# Altium schematic symbol library WE-CMDC.SchLib: 16 symbols
Pins are listed as number, name and electrical type; pins without a type are passive.

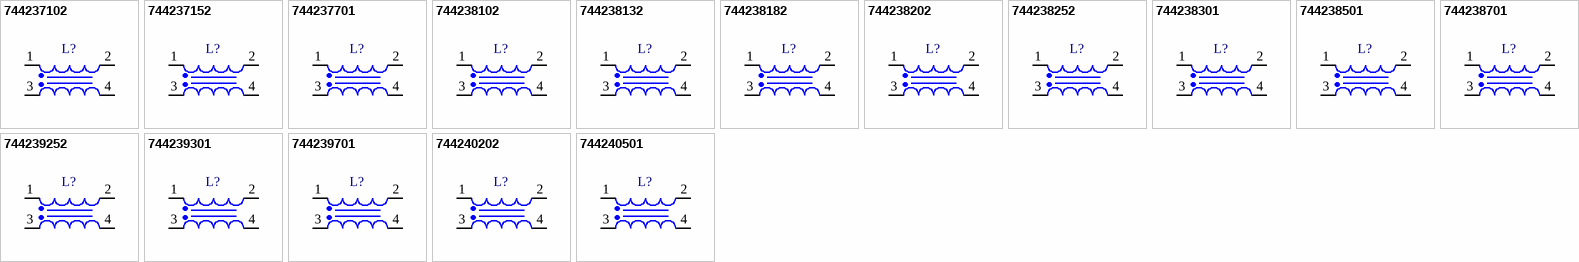
[diagram p0: symbols 744237102 to 744240501]

## 744237102
designator L?, comment 13μH  (value not drawn)
WE-CMDC Common Mode Data Line Filter, SMT, size 1211, 13μH, 14mΩ; Manufacturer Part Number: 744237102; Manufacturer: Wurth Elektronik; Case/Size Code: 1211; Impedance: 1000Ω; Rated Voltage: 80V (DC); Rated Current: 6A; Winding Style: sectional; Category: Common Mode Chokes; Match Code: WE-CMDC; ComponentLink1Description: Website Link; ComponentLink1URL: https://www.we-online.com/redexpert/article/744237102?ad; ComponentLink2Description: Datasheet Link; ComponentLink2URL: https://www.we-online.com/redexpert/spec/744237102?ad; Mount: Surface Mount; Min Operating Temperature: -40°C; Max Operating Temperature: 125°C; Packaging: Tape and Reel; DC Resistance: 14mΩ; Inductance: 13μH
footprint WE-CMDC_1211
simulation model 1211_744237102_13u
pins: 1, 2, 3, 4

## 744237152
designator L?, comment 17μH  (value not drawn)
WE-CMDC Common Mode Data Line Filter, SMT, size 1211, 17μH, 21mΩ; Manufacturer Part Number: 744237152; Manufacturer: Wurth Elektronik; Case/Size Code: 1211; Impedance: 1500Ω; Rated Voltage: 80V (DC); Rated Current: 4.5A; Winding Style: sectional; Category: Common Mode Chokes; Match Code: WE-CMDC; ComponentLink1Description: Website Link; ComponentLink1URL: https://www.we-online.com/redexpert/article/744237152?ad; ComponentLink2Description: Datasheet Link; ComponentLink2URL: https://www.we-online.com/redexpert/spec/744237152?ad; Mount: Surface Mount; Min Operating Temperature: -40°C; Max Operating Temperature: 125°C; Packaging: Tape and Reel; DC Resistance: 21mΩ; Inductance: 17μH
footprint WE-CMDC_1211
simulation model 1211_744237152_17u
pins: 1, 2, 3, 4

## 744237701
designator L?, comment 9μH  (value not drawn)
WE-CMDC Common Mode Data Line Filter, SMT, size 1211, 9μH, 6mΩ; Manufacturer Part Number: 744237701; Manufacturer: Wurth Elektronik; Case/Size Code: 1211; Impedance: 700Ω; Rated Voltage: 80V (DC); Rated Current: 8A; Winding Style: sectional; Category: Common Mode Chokes; Match Code: WE-CMDC; ComponentLink1Description: Website Link; ComponentLink1URL: https://www.we-online.com/redexpert/article/744237701?ad; ComponentLink2Description: Datasheet Link; ComponentLink2URL: https://www.we-online.com/redexpert/spec/744237701?ad; Mount: Surface Mount; Min Operating Temperature: -40°C; Max Operating Temperature: 125°C; Packaging: Tape and Reel; DC Resistance: 6mΩ; Inductance: 9μH
footprint WE-CMDC_1211
simulation model 1211_744237701_9u
pins: 1, 2, 3, 4

## 744238102
designator L?, comment 12.5μH  (value not drawn)
WE-CMDC Common Mode Data Line Filter, SMT, size 7060, 12.5μH, 20mΩ; Manufacturer Part Number: 744238102; Manufacturer: Wurth Elektronik; Case/Size Code: 7060; Impedance: 1000Ω; Rated Voltage: 80V (DC); Rated Current: 3A; Winding Style: sectional; Category: Common Mode Chokes; Match Code: WE-CMDC; ComponentLink1Description: Website Link; ComponentLink1URL: https://www.we-online.com/redexpert/article/744238102?ad; ComponentLink2Description: Datasheet Link; ComponentLink2URL: https://www.we-online.com/redexpert/spec/744238102?ad; Mount: Surface Mount; Min Operating Temperature: -40°C; Max Operating Temperature: 125°C; Packaging: Tape and Reel; DC Resistance: 20mΩ; Inductance: 12.5μH
footprint WE-CMDC_7060
simulation model 7060_744238102_12.5u
pins: 1, 2, 3, 4

## 744238132
designator L?, comment 14μH  (value not drawn)
WE-CMDC Common Mode Data Line Filter, SMT, size 7060, 14μH, 25mΩ; Manufacturer Part Number: 744238132; Manufacturer: Wurth Elektronik; Case/Size Code: 7060; Impedance: 1300Ω; Rated Voltage: 80V (DC); Rated Current: 2.5A; Winding Style: sectional; Category: Common Mode Chokes; Match Code: WE-CMDC; ComponentLink1Description: Website Link; ComponentLink1URL: https://www.we-online.com/redexpert/article/744238132?ad; ComponentLink2Description: Datasheet Link; ComponentLink2URL: https://www.we-online.com/redexpert/spec/744238132?ad; Mount: Surface Mount; Min Operating Temperature: -40°C; Max Operating Temperature: 125°C; Packaging: Tape and Reel; DC Resistance: 25mΩ; Inductance: 14μH
footprint WE-CMDC_7060
simulation model 7060_744238132_14u
pins: 1, 2, 3, 4

## 744238182
designator L?, comment 20μH  (value not drawn)
WE-CMDC Common Mode Data Line Filter, SMT, size 7060, 20μH, 53mΩ; Manufacturer Part Number: 744238182; Manufacturer: Wurth Elektronik; Case/Size Code: 7060; Impedance: 1800Ω; Rated Voltage: 80V (DC); Rated Current: 2A; Winding Style: sectional; Category: Common Mode Chokes; Match Code: WE-CMDC; ComponentLink1Description: Website Link; ComponentLink1URL: https://www.we-online.com/redexpert/article/744238182?ad; ComponentLink2Description: Datasheet Link; ComponentLink2URL: https://www.we-online.com/redexpert/spec/744238182?ad; Mount: Surface Mount; Min Operating Temperature: -40°C; Max Operating Temperature: 125°C; Packaging: Tape and Reel; DC Resistance: 53mΩ; Inductance: 20μH
footprint WE-CMDC_7060
simulation model 7060_744238182_20u
pins: 1, 2, 3, 4

## 744238202
designator L?, comment 23.5μH  (value not drawn)
WE-CMDC Common Mode Data Line Filter, SMT, size 7060, 23.5μH, 63mΩ; Manufacturer Part Number: 744238202; Manufacturer: Wurth Elektronik; Case/Size Code: 7060; Impedance: 2000Ω; Rated Voltage: 80V (DC); Rated Current: 1.5A; Winding Style: sectional; Category: Common Mode Chokes; Match Code: WE-CMDC; ComponentLink1Description: Website Link; ComponentLink1URL: https://www.we-online.com/redexpert/article/744238202?ad; ComponentLink2Description: Datasheet Link; ComponentLink2URL: https://www.we-online.com/redexpert/spec/744238202?ad; Mount: Surface Mount; Min Operating Temperature: -40°C; Max Operating Temperature: 125°C; Packaging: Tape and Reel; DC Resistance: 63mΩ; Inductance: 23.5μH
footprint WE-CMDC_7060
simulation model 7060_744238202_23.5u
pins: 1, 2, 3, 4

## 744238252
designator L?, comment 27μH  (value not drawn)
WE-CMDC Common Mode Data Line Filter, SMT, size 7060, 27μH, 72mΩ; Manufacturer Part Number: 744238252; Manufacturer: Wurth Elektronik; Case/Size Code: 7060; Impedance: 2500Ω; Rated Voltage: 80V (DC); Rated Current: 1.2A; Winding Style: sectional; Category: Common Mode Chokes; Match Code: WE-CMDC; ComponentLink1Description: Website Link; ComponentLink1URL: https://www.we-online.com/redexpert/article/744238252?ad; ComponentLink2Description: Datasheet Link; ComponentLink2URL: https://www.we-online.com/redexpert/spec/744238252?ad; Mount: Surface Mount; Min Operating Temperature: -40°C; Max Operating Temperature: 125°C; Packaging: Tape and Reel; DC Resistance: 72mΩ; Inductance: 27μH
footprint WE-CMDC_7060
simulation model 7060_744238252_27u
pins: 1, 2, 3, 4

## 744238301
designator L?, comment 4μH  (value not drawn)
WE-CMDC Common Mode Data Line Filter, SMT, size 7060, 4μH, 10mΩ; Manufacturer Part Number: 744238301; Manufacturer: Wurth Elektronik; Case/Size Code: 7060; Impedance: 300Ω; Rated Voltage: 80V (DC); Rated Current: 5A; Winding Style: sectional; Category: Common Mode Chokes; Match Code: WE-CMDC; ComponentLink1Description: Website Link; ComponentLink1URL: https://www.we-online.com/redexpert/article/744238301?ad; ComponentLink2Description: Datasheet Link; ComponentLink2URL: https://www.we-online.com/redexpert/spec/744238301?ad; Mount: Surface Mount; Min Operating Temperature: -40°C; Max Operating Temperature: 125°C; Packaging: Tape and Reel; DC Resistance: 10mΩ; Inductance: 4μH
footprint WE-CMDC_7060
simulation model 7060_744238301_4u
pins: 1, 2, 3, 4

## 744238501
designator L?, comment 7μH  (value not drawn)
WE-CMDC Common Mode Data Line Filter, SMT, size 7060, 7μH, 14mΩ; Manufacturer Part Number: 744238501; Manufacturer: Wurth Elektronik; Case/Size Code: 7060; Impedance: 500Ω; Rated Voltage: 80V (DC); Rated Current: 4.5A; Winding Style: sectional; Category: Common Mode Chokes; Match Code: WE-CMDC; ComponentLink1Description: Website Link; ComponentLink1URL: https://www.we-online.com/redexpert/article/744238501?ad; ComponentLink2Description: Datasheet Link; ComponentLink2URL: https://www.we-online.com/redexpert/spec/744238501?ad; Mount: Surface Mount; Min Operating Temperature: -40°C; Max Operating Temperature: 125°C; Packaging: Tape and Reel; DC Resistance: 14mΩ; Inductance: 7μH
footprint WE-CMDC_7060
simulation model 7060_744238501_7u
pins: 1, 2, 3, 4

## 744238701
designator L?, comment 9μH  (value not drawn)
WE-CMDC Common Mode Data Line Filter, SMT, size 7060, 9μH, 15mΩ; Manufacturer Part Number: 744238701; Manufacturer: Wurth Elektronik; Case/Size Code: 7060; Impedance: 700Ω; Rated Voltage: 80V (DC); Rated Current: 4A; Winding Style: sectional; Category: Common Mode Chokes; Match Code: WE-CMDC; ComponentLink1Description: Website Link; ComponentLink1URL: https://www.we-online.com/redexpert/article/744238701?ad; ComponentLink2Description: Datasheet Link; ComponentLink2URL: https://www.we-online.com/redexpert/spec/744238701?ad; Mount: Surface Mount; Min Operating Temperature: -40°C; Max Operating Temperature: 125°C; Packaging: Tape and Reel; DC Resistance: 15mΩ; Inductance: 9μH
footprint WE-CMDC_7060
simulation model 7060_744238701_9u
pins: 1, 2, 3, 4

## 744239252
designator L?, comment 45μH  (value not drawn)
WE-CMDC Common Mode Data Line Filter, SMT, size 9070, 45μH, 71mΩ; Manufacturer Part Number: 744239252; Manufacturer: Wurth Elektronik; Case/Size Code: 9070; Impedance: 2500Ω; Rated Voltage: 80V (DC); Rated Current: 1.9A; Winding Style: sectional; Category: Common Mode Chokes; Match Code: WE-CMDC; ComponentLink1Description: Website Link; ComponentLink1URL: https://www.we-online.com/redexpert/article/744239252?ad; ComponentLink2Description: Datasheet Link; ComponentLink2URL: https://www.we-online.com/redexpert/spec/744239252?ad; Mount: Surface Mount; Min Operating Temperature: -40°C; Max Operating Temperature: 125°C; Packaging: Tape and Reel; DC Resistance: 71mΩ; Inductance: 45μH
footprint WE-CMDC_9070
simulation model 9070_744239252_45u
pins: 1, 2, 3, 4

## 744239301
designator L?, comment 4.5μH  (value not drawn)
WE-CMDC Common Mode Data Line Filter, SMT, size 9070, 4.5μH, 7mΩ; Manufacturer Part Number: 744239301; Manufacturer: Wurth Elektronik; Case/Size Code: 9070; Impedance: 300Ω; Rated Voltage: 80V (DC); Rated Current: 6A; Winding Style: sectional; Category: Common Mode Chokes; Match Code: WE-CMDC; ComponentLink1Description: Website Link; ComponentLink1URL: https://www.we-online.com/redexpert/article/744239301?ad; ComponentLink2Description: Datasheet Link; ComponentLink2URL: https://www.we-online.com/redexpert/spec/744239301?ad; Mount: Surface Mount; Min Operating Temperature: -40°C; Max Operating Temperature: 125°C; Packaging: Tape and Reel; DC Resistance: 7mΩ; Inductance: 4.5μH
footprint WE-CMDC_9070
simulation model 9070_744239301_4.5u
pins: 1, 2, 3, 4

## 744239701
designator L?, comment 8μH  (value not drawn)
WE-CMDC Common Mode Data Line Filter, SMT, size 9070, 8μH, 10mΩ; Manufacturer Part Number: 744239701; Manufacturer: Wurth Elektronik; Case/Size Code: 9070; Impedance: 700Ω; Rated Voltage: 80V (DC); Rated Current: 5A; Winding Style: sectional; Category: Common Mode Chokes; Match Code: WE-CMDC; ComponentLink1Description: Website Link; ComponentLink1URL: https://www.we-online.com/redexpert/article/744239701?ad; ComponentLink2Description: Datasheet Link; ComponentLink2URL: https://www.we-online.com/redexpert/spec/744239701?ad; Mount: Surface Mount; Min Operating Temperature: -40°C; Max Operating Temperature: 125°C; Packaging: Tape and Reel; DC Resistance: 10mΩ; Inductance: 8μH
footprint WE-CMDC_9070
simulation model 9070_744239701_8u
pins: 1, 2, 3, 4

## 744240202
designator L?, comment 31.5μH  (value not drawn)
WE-CMDC Common Mode Data Line Filter, SMT, size 1513, 31.5μH, 21mΩ; Manufacturer Part Number: 744240202; Manufacturer: Wurth Elektronik; Case/Size Code: 1513; Impedance: 2000Ω; Rated Voltage: 80V (DC); Rated Current: 5A; Winding Style: bifiliar; Category: Common Mode Chokes; Match Code: WE-CMDC; ComponentLink1Description: Website Link; ComponentLink1URL: https://www.we-online.com/redexpert/article/744240202?ad; ComponentLink2Description: Datasheet Link; ComponentLink2URL: https://www.we-online.com/redexpert/spec/744240202?ad; Mount: Surface Mount; Min Operating Temperature: -40°C; Max Operating Temperature: 125°C; Packaging: Tape and Reel; DC Resistance: 21mΩ; Inductance: 31.5μH
footprint WE-CMDC_1513
simulation model 1513_744240202_31.5u
pins: 1, 2, 3, 4

## 744240501
designator L?, comment 6.3μH  (value not drawn)
WE-CMDC Common Mode Data Line Filter, SMT, size 1513, 6.3μH, 5.6mΩ; Manufacturer Part Number: 744240501; Manufacturer: Wurth Elektronik; Case/Size Code: 1513; Impedance: 500Ω; Rated Voltage: 80V (DC); Rated Current: 10A; Winding Style: bifiliar; Category: Common Mode Chokes; Match Code: WE-CMDC; ComponentLink1Description: Website Link; ComponentLink1URL: https://www.we-online.com/redexpert/article/744240501?ad; ComponentLink2Description: Datasheet Link; ComponentLink2URL: https://www.we-online.com/redexpert/spec/744240501?ad; Mount: Surface Mount; Min Operating Temperature: -40°C; Max Operating Temperature: 125°C; Packaging: Tape and Reel; DC Resistance: 5.6mΩ; Inductance: 6.3μH
footprint WE-CMDC_1513
simulation model 1513_744240501_6.3u
pins: 1, 2, 3, 4